# EAGLE library part SIMFCI (library JLB6_Connec)
Support SIM FCI 8 broches
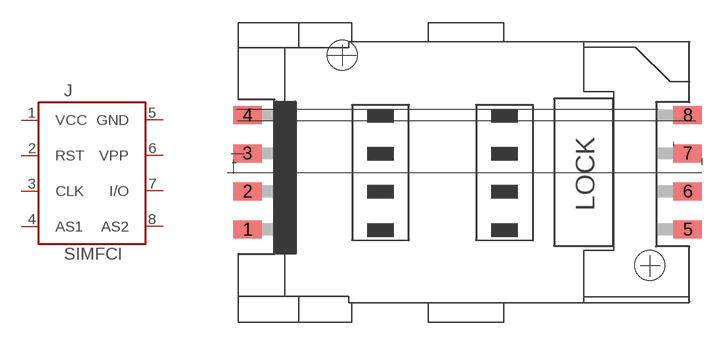
[diagram p21: symbol with the pads of SIMFCI; footprint SIMFCI]

Designator prefix J

## SIMFCI  [SIMFCI]
1  VCC
2  RST
3  CLK
4  AS1
5  GND
6  VPP
7  I/O
8  AS2

## Footprint SIMFCI (pad centres in mm)
6 Contacts (3+3), low profile drawn by DeSIG desig@radikaldesig.com
smd 1.9 x 1.2: 1 0.696,0.345; 2 0.696,2.885; 3 0.696,5.425; 4 0.696,7.965; 5 29.997,0.345; 6 29.997,2.885; 7 29.997,5.425; 8 29.997,7.965
hole 2 at 27.483,-2.032
hole 2 at 6.985,11.963